# Altium schematic symbol library резисторы.SchLib: 12 symbols
Pins are listed as number, name and electrical type; pins without a type are passive.

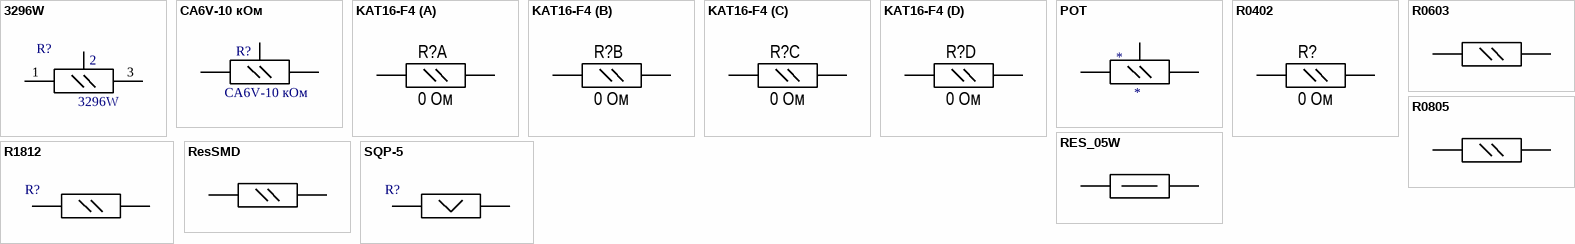
[diagram p0: symbols 3296W to SQP-5]

## 3296W
designator R?
pins: 1, 2, 3

## CA6V-10 кОм
designator R?
pins: 1, 2, 3

## KAT16-F4
designator R?, comment 0 Ом
part A pins: 1, 2
part B pins: 3, 4
part C pins: 5, 6
part D pins: 7, 8

## POT
designator *
pins: 1, 2, 3

## R0402
designator R?, comment 0 Ом
pins: 1, 2

## R0603
designator R?  (value not drawn)
Rem: *; Package: 0603; Value: *; Tolerance: *; Power/Voltage: *; TKE: *; ManufacturerPartNumber: *; Manufacturer: *; Quantity: *; Примечание: *
pins: 1, 2

## R0805
designator D?  (value not drawn)
Rem: *; Package: 0805; Value: *; Tolerance: *; Power/Voltage: *; TKE: *; ManufacturerPartNumber: *; Manufacturer: *; Quantity: *; Примечание: *
pins: 1, 2

## R1812
designator R?, comment 0 Ом  (value not drawn)
pins: 1, 2

## RES_05W
designator R?  (value not drawn)
Rem: *; Корпус: *; Value: *; Tolerance: *; Power/Voltage: *; TKE: *; ManufacturerPartNumber: *; Manufacturer: *; Quantity: *; Примечание: *
pins: 1, 2

## ResSMD
designator R?  (value not drawn)
Rem: *; Package: *; Value: *; Tolerance: *; Power/Voltage: *; TKE: *; ManufacturerPartNumber: *; Manufacturer: *; Quantity: *; Примечание: *
pins: 1, 2

## SQP-5
designator R?, comment 0 Ом  (value not drawn)
pins: 1, 2

## РЫБА
designator R?  (value not drawn)
Rem: *; Package: *; Value: *; Tolerance: *; Power/Voltage: *; TKE: *; ManufacturerPartNumber: *; Manufacturer: *; Quantity: *; Примечание: *